# Altium footprint library Inductor_SMD.PcbLib: 587 footprints (part 5 of 37)
Each footprint in its own frame and in the unit in brackets; x right, y up, seen from the top. Pads: shape width x height; smd on the part's side, far side on the other; paste and mask are expansions set on the pad; w line width, h text height; cw(c..) or ccw(c..) is an arc to the next point about the centre after c.
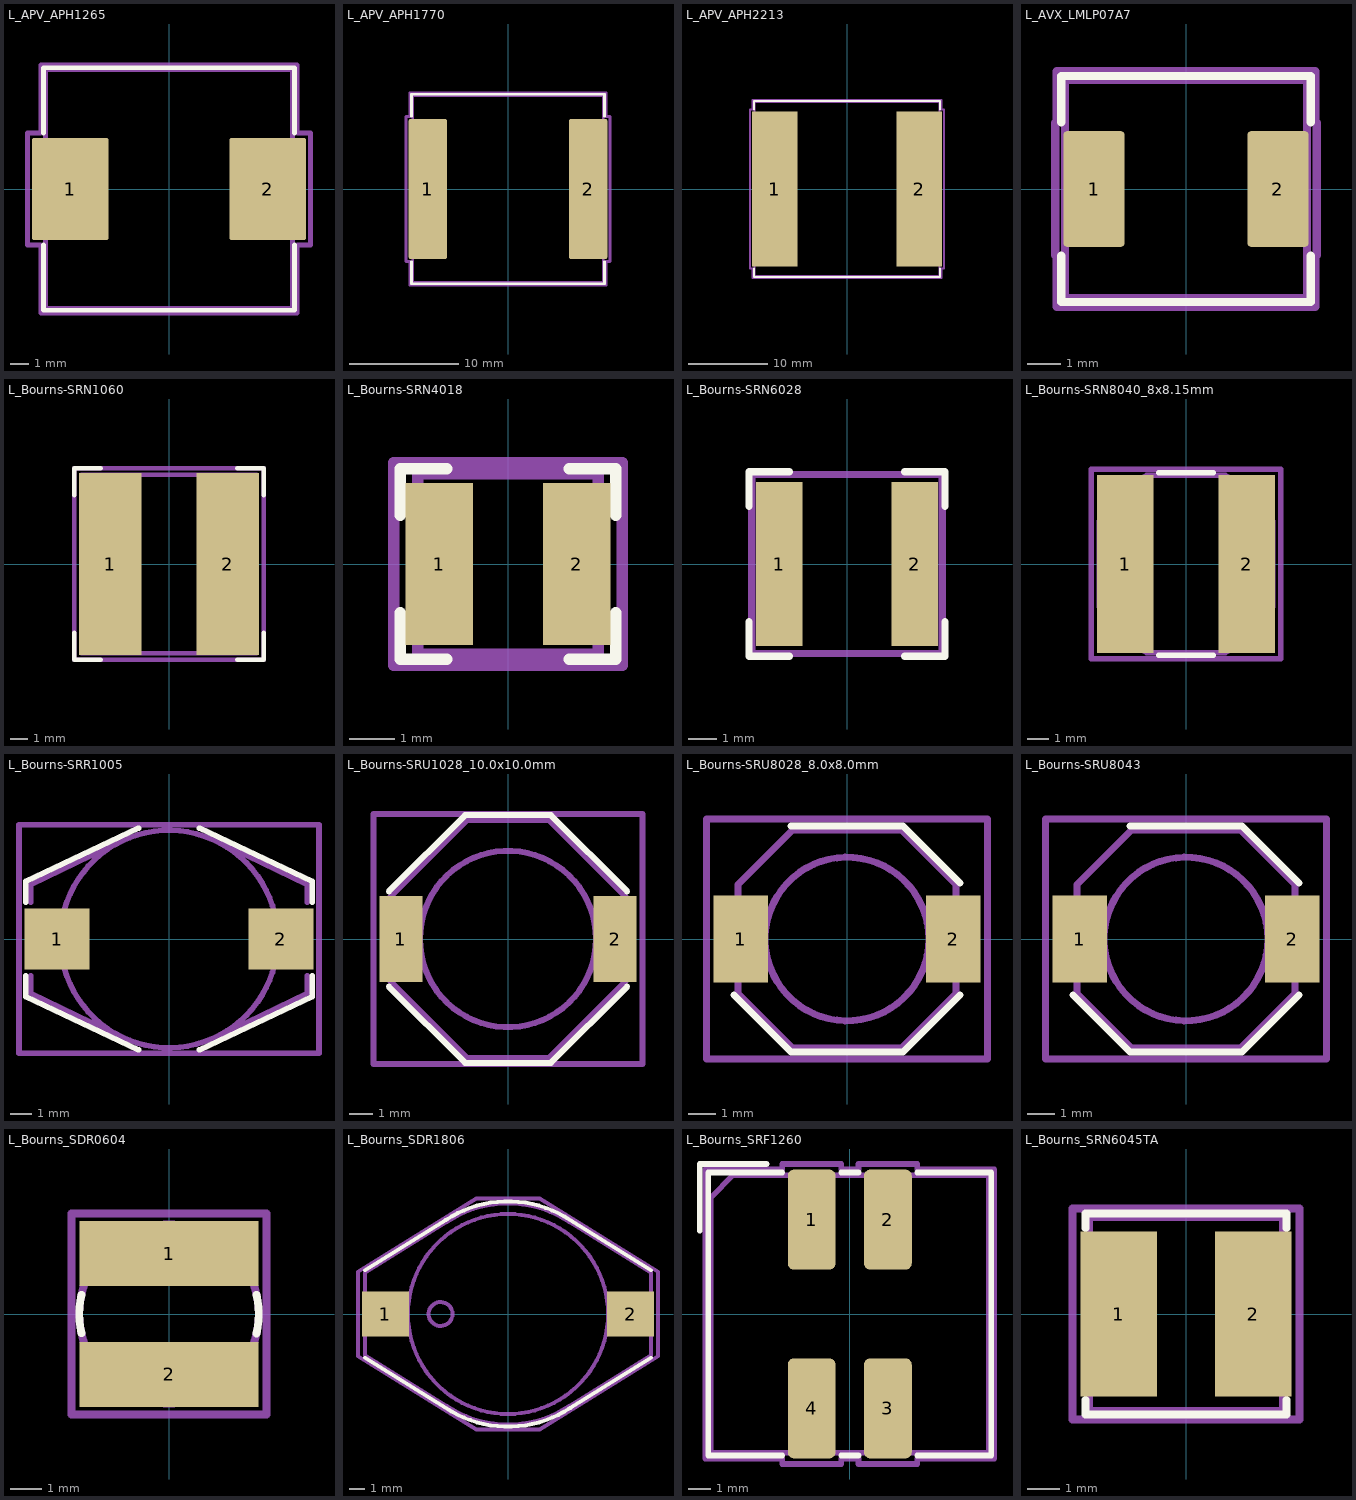
[diagram p4: the footprints below, top view; thin cyan lines are the x and y axes]

## L_APV_APH1265 [mm] "L_APV_APH1265"
pads (2):
  rrect6% 4.1x5.5 smd: 1(-5.3,0) 2(5.3,0)
F.SilkS:
  lines w0.254: -6.735,-3.01 -6.735,-6.51 6.735,-6.51 6.735,-3.01 ; -6.735,3.01 -6.735,6.51 6.735,6.51 6.735,3.01
Top Assembly:
  lines w0.254: -6.625,-6.4 6.625,-6.4 6.625,6.4 -6.625,6.4 -6.625,-6.4
Top Courtyard:
  lines w0.254: -7.6,-3 -6.88,-3 -6.88,-6.65 6.88,-6.65 6.88,-3 7.6,-3 7.6,3 6.88,3 6.88,6.65 -6.88,6.65 -6.88,3 -7.6,3 -7.6,-3
Top Designator:
  text ".Designator" at -3.434,-0.345 h1.52
3D body "L_APV_APH1265.step": height 6.5, standoff 0, extent -6.735,-6.4 6.735,6.4

## L_APV_APH1770 [mm] "L_APV_APH1770"
pads (2):
  rrect7% 3.5x12.8 smd: 1(-7.35,0) 2(7.35,0)
F.SilkS:
  lines w0.254: -8.835,-6.66 -8.835,-8.685 8.835,-8.685 8.835,-6.66 ; -8.835,6.66 -8.835,8.685 8.835,8.685 8.835,6.66
Top Assembly:
  lines w0.254: -8.725,-8.575 -8.725,8.575 8.725,8.575 8.725,-8.575 -8.725,-8.575
Top Courtyard:
  lines w0.254: -9.35,-6.65 -9.35,6.65 -8.98,6.65 -8.98,8.83 8.98,8.83 8.98,6.65 9.35,6.65 9.35,-6.65 8.98,-6.65 8.98,-8.83 -8.98,-8.83 -8.98,-6.65 -9.35,-6.65
Top Designator:
  text ".Designator" at -3.434,-0.345 h1.52
3D body "L_APV_APH1770.step": height 6.7, standoff 0, extent -8.835,-8.575 8.835,8.575

## L_APV_APH2213 [mm] "L_APV_APH2213"
pads (2):
  rrect4% 5.75x19.6 smd: 1(-9.125,0) 2(9.125,0)
F.SilkS:
  lines w0.254: -11.76,-10.06 -11.76,-11.11 11.76,-11.11 11.76,-10.06 ; -11.76,10.06 -11.76,11.11 11.76,11.11 11.76,10.06
Top Assembly:
  lines w0.254: -11.65,-11 -11.65,11 11.65,11 11.65,-11 -11.65,-11
Top Courtyard:
  lines w0.254: -12.25,-10.05 -12.25,10.05 -11.9,10.05 -11.9,11.25 11.9,11.25 11.9,10.05 12.25,10.05 12.25,-10.05 11.9,-10.05 11.9,-11.25 -11.9,-11.25 -11.9,-10.05 -12.25,-10.05
Top Designator:
  text ".Designator" at -3.434,-0.345 h1.52
3D body "L_APV_APH2213.step": height 12.6, standoff 0, extent -11.76,-11 11.76,11

## L_AVX_LMLP07A7 [mm] "L_AVX_LMLP07A7"
pads (2):
  rrect14% 1.85x3.5 smd: 1(-2.775,0) 2(2.775,0)
F.SilkS:
  lines w0.254: -3.76,-2.01 -3.76,-3.41 3.76,-3.41 3.76,-2.01 ; -3.76,2.01 -3.76,3.41 3.76,3.41 3.76,2.01
Top Assembly:
  lines w0.254: -3.65,-3.3 -3.65,3.3 3.65,3.3 3.65,-3.3 -3.65,-3.3
Top Courtyard:
  lines w0.254: -3.95,-2 -3.95,2 -3.9,2 -3.9,3.55 3.9,3.55 3.9,2 3.95,2 3.95,-2 3.9,-2 3.9,-3.55 -3.9,-3.55 -3.9,-2 -3.95,-2
Top Designator:
  text ".Designator" at -3.434,-0.345 h1.52

## L_Bourns-SRN1060 [mm]
pads (2):
  rect 3.5x10.2 smd: 1(-3.3,0) 2(3.3,0)
F.SilkS:
  lines w0.254: -5.31,-3.86 -5.31,-5.36 -3.81,-5.36 ; -5.31,3.86 -5.31,5.36 -3.81,5.36 ; 3.81,-5.36 5.31,-5.36 5.31,-3.86 ; 3.81,5.36 5.31,5.36 5.31,3.86
Top Assembly:
  lines w0.254: -4.9,-5 -4.9,5 4.9,5 4.9,-5 -4.9,-5
  text "'.Designator'" at -4.047,-0.84 h1
Top Courtyard:
  lines w0.254: -5.3,-5.35 -5.3,5.35 5.3,5.35 5.3,-5.35 -5.3,-5.35
Top Designator:
  text ".Designator" at -7.618,-0.508 h1.52

## L_Bourns-SRN4018 [mm]
pads (2):
  rect 1.5x3.6 smd: 1(-1.525,0) 2(1.525,0)
F.SilkS:
  lines w0.254: -2.385,-1.085 -2.385,-2.11 -1.36,-2.11 ; -2.385,1.085 -2.385,2.11 -1.36,2.11 ; 1.36,-2.11 2.385,-2.11 2.385,-1.085 ; 1.36,2.11 2.385,2.11 2.385,1.085
Top Assembly:
  lines w0.254: -2,-2 2,-2 2,2 -2,2 -2,-2
  text "'.Designator'" at -4.047,-0.84 h1
Top Courtyard:
  lines w0.254: -2.53,-2.25 2.53,-2.25 2.53,2.25 -2.53,2.25 -2.53,-2.25
Top Designator:
  text ".Designator" at -7.768,-0.508 h1.52

## L_Bourns-SRN6028 [mm]
pads (2):
  rect 1.6x5.7 smd: 1(-2.35,0) 2(2.35,0)
F.SilkS:
  lines w0.254: -3.4,-2 -3.4,-3.2 -2,-3.2 ; -3.4,2 -3.4,3.2 -2,3.2 ; 2,-3.2 3.4,-3.2 3.4,-2 ; 2,3.2 3.4,3.2 3.4,2
Top Assembly:
  lines w0.254: -3.3,-3.1 -3.3,3.1 3.3,3.1 3.3,-3.1 -3.3,-3.1
  text "'.Designator'" at -4.047,-0.84 h1
Top Courtyard:
  lines w0.254: -3.3,-3.1 -3.3,3.1 3.3,3.1 3.3,-3.1 -3.3,-3.1
Top Designator:
  text ".Designator" at -7.768,-0.508 h1.52

## L_Bourns-SRN8040_8x8.15mm [mm] "L_Bourns-SRN8040_8x8.15mm"
pads (2):
  rect 2.6x8.2 smd: 1(-2.8,0) 2(2.8,0)
F.SilkS:
  lines w0.254: -1.25,-4.2 1.25,-4.2 ; -1.25,4.2 1.25,4.2
Top Assembly:
  lines w0.254: -4,1.96 -4,-1.96 ccw(c0,0) -1.804,-4.073 ; -3.998,1.965 cw(c0,0) -1.8,4.075 1.8,4.075 ; -1.8,-4.075 1.8,-4.075 ccw(c0,0) 3.998,-1.965 ; 1.8,4.075 cw(c0,0) 4,1.96 4,-1.96
  text "'.Designator'" at -3.92,-0.84 h1
Top Courtyard:
  lines w0.254: -4.35,-4.35 -4.35,4.35 4.35,4.35 4.35,-4.35 -4.35,-4.35
Top Designator:
  text ".Designator" at -7.618,-0.508 h1.52

## L_Bourns-SRR1005 [mm] "L_Bourns-SRR1005"
pads (2):
  rect 3x2.8 smd: 1(-5.15,0) 2(5.15,0)
F.SilkS:
  lines w0.254: -6.6,-1.7 -6.6,-2.65 -1.4,-5.1 ; -6.6,1.7 -6.6,2.65 -1.4,5.1 ; 1.4,-5.1 6.6,-2.65 6.6,-1.7 ; 1.4,5.1 6.6,2.65 6.6,1.7
Top Assembly:
  circle w0.254: c0,0 r5
  lines w0.254: -6.35,-1.7 -6.35,-2.5 -2.2,-4.5 ; -6.35,1.7 -6.35,2.5 -2.2,4.5 ; 2.2,-4.5 6.35,-2.5 6.35,-1.7 ; 2.2,4.5 6.35,2.5 6.35,1.7
  text "'.Designator'" at -4.047,-0.84 h1
Top Courtyard:
  lines w0.254: -6.9,-5.25 -6.9,5.25 6.9,5.25 6.9,-5.25 -6.9,-5.25
Top Designator:
  text ".Designator" at -7.618,-0.508 h1.52

## L_Bourns-SRU1028_10.0x10.0mm [mm] "L_Bourns-SRU1028_10.0x10.0mm"
pads (2):
  rect 1.8x3.6 smd: 1(-4.5,0) 2(4.5,0)
F.SilkS:
  lines w0.254: -5,-2 -1.8,-5.2 1.8,-5.2 5,-2 ; -5,2 -1.8,5.2 1.8,5.2 5,2
Top Assembly:
  circle w0.254: c0,0 r3.7
  lines w0.254: -5,-1.7 -5,1.7 -1.7,5 1.7,5 5,1.7 5,-1.7 1.7,-5 -1.7,-5 -5,-1.7
  text "'.Designator'" at -4.047,-0.84 h1
Top Courtyard:
  lines w0.254: -5.65,-5.25 -5.65,5.25 5.65,5.25 5.65,-5.25 -5.65,-5.25
Top Designator:
  text ".Designator" at -7.618,-0.508 h1.52

## L_Bourns-SRU8028_8.0x8.0mm [mm] "L_Bourns-SRU8028_8.0x8.0mm"
pads (2):
  rect 2x3.2 smd: 1(-3.9,0) 2(3.9,0)
F.SilkS:
  lines w0.254: -4.15,-2.05 -2.05,-4.15 2.05,-4.15 4.15,-2.05 ; -2.05,4.15 2.05,4.15 4.15,2.05
Top Assembly:
  circle w0.254: c0,0 r3
  lines w0.254: -4,-2 -2,-4 2,-4 4,-2 4,2 2,4 -2,4 -4,2 -4,-2
  text "'.Designator'" at -4.047,-0.84 h1
Top Courtyard:
  lines w0.254: -5.15,-4.4 5.15,-4.4 5.15,4.4 -5.15,4.4 -5.15,-4.4
Top Designator:
  text ".Designator" at -7.618,-0.508 h1.52

## L_Bourns-SRU8043 [mm] "L_Bourns-SRU8043"
pads (2):
  rect 2x3.2 smd: 1(-3.9,0) 2(3.9,0)
F.SilkS:
  lines w0.254: -4.15,-2.05 -2.05,-4.15 2.05,-4.15 4.15,-2.05 ; -2.05,4.15 2.05,4.15 4.15,2.05
Top Assembly:
  circle w0.254: c0,0 r3
  lines w0.254: -4,-2 -4,2 -2,4 2,4 4,2 4,-2 2,-4 -2,-4 -4,-2
  text "'.Designator'" at -4.047,-0.84 h1
Top Courtyard:
  lines w0.254: -5.15,-4.4 -5.15,4.4 5.15,4.4 5.15,-4.4 -5.15,-4.4
Top Designator:
  text ".Designator" at -7.618,-0.508 h1.52

## L_Bourns_SDR0604 [mm] "L_Bourns_SDR0604"
pads (2):
  rrect0% 5.8x2.1 smd: 1(0,1.95) 2(0,-1.95)
F.SilkS:
  lines w0.254: -2.832,-0.625 cw(c0,0) -2.9,0 cw(c0,0) -2.832,0.623 ; 2.831,-0.629 ccw(c-0.025,0) 2.9,0 ccw(c0,0) 2.833,0.622
Top Assembly:
  circle w0.254: c0,0 r2.9
Top Courtyard:
  lines w0.254: -3.15,-3.25 -3.15,3.25 3.15,3.25 3.15,-3.25 -3.15,-3.25
Top Designator:
  text ".Designator" at -3.434,-0.345 h1.52

## L_Bourns_SDR1806 [mm] "L_Bourns_SDR1806"
pads (2):
  rect 3x2.9 smd: 1(-7.85,0) 2(7.85,0)
F.SilkS:
  lines w0.254: -9.15,-2.8 -4,-6 ccw(c0,0) 3.992,-6.006 ; -9.15,2.8 -4,6 ; -3.992,6.006 cw(c0,0) 4,6 9.15,2.8 ; 4,-6 9.15,-2.8
Top Assembly:
  circle w0.254: c0,0 r6.4
  circle w0.254: c-4.318,0 r0.762
  lines w0.254: -3.9,5.9 -9.15,2.65 -9.15,-2.65 -3.9,-5.9 ccw(c0,0) 3.897,-5.902 ; -3.897,5.902 cw(c0,0) 3.9,5.9 9.15,2.65 9.15,-2.65 3.9,-5.9
Top Courtyard:
  lines w0.254: -9.6,-2.7 -2,-7.4 2,-7.4 9.6,-2.7 9.6,2.7 2,7.4 -2,7.4 -9.6,2.7 -9.6,-2.7
Top Designator:
  text ".Designator" at -3.434,-0.345 h1.52
3D body "L_Bourns_SDR1806.step": height 6.6, standoff -0.01, extent -9.36,-7.15 9.36,7.15

## L_Bourns_SRF1260 [mm] "L_Bourns_SRF1260"
pads (4):
  rrect25% 2.15x4.5 smd: 1(-1.715,4.25) 2(1.715,4.25) 3(1.715,-4.25) 4(-1.715,-4.25)
F.SilkS:
  lines w0.254: -6.75,3.75 -6.75,6.75 -3.75,6.75 ; -3.04,-6.37 -6.37,-6.37 -6.37,6.37 -3.04,6.37 ; -0.39,-6.37 0.39,-6.37 ; -0.39,6.37 0.39,6.37 ; 3.04,-6.37 6.37,-6.37 6.37,6.37 3.04,6.37
Top Assembly:
  lines w0.254: -6.25,-6.25 6.25,-6.25 6.25,6.25 -5.25,6.25 -6.25,5.25 -6.25,-6.25
Top Courtyard:
  lines w0.254: -6.5,-6.5 -3.04,-6.5 -3.04,-6.75 -0.39,-6.75 -0.39,-6.5 0.39,-6.5 0.39,-6.75 3.04,-6.75 3.04,-6.5 6.5,-6.5 6.5,6.5 3.04,6.5 3.04,6.75 0.39,6.75 0.39,6.5 -0.39,6.5 -0.39,6.75 -3.04,6.75 -3.04,6.5 -6.5,6.5 -6.5,-6.5
Top Designator:
  text ".Designator" at -3.434,-0.345 h1.52

## L_Bourns_SRN6045TA [mm] "L_Bourns_SRN6045TA"
pads (2):
  rect 2.35x5.1 smd: 1(-2.075,0) 2(2.075,0)
F.SilkS:
  lines w0.254: -3.1,-2.65 -3.1,-3.1 3.1,-3.1 3.1,-2.65 ; -3.1,2.65 -3.1,3.1 3.1,3.1 3.1,2.65
Top Assembly:
  lines w0.254: -3,-3 -3,3 3,3 3,-3 -3,-3
Top Courtyard:
  lines w0.254: -3.5,-3.25 -3.5,3.25 3.5,3.25 3.5,-3.25 -3.5,-3.25
Top Designator:
  text ".Designator" at -3.434,-0.345 h1.52
3D body "L_Bourns_SRN6045TA.step": height 4.2, standoff 0, extent -3,-3 3,3